# EAGLE library part MC14504B (library pixhawk2)
Hex level shifter
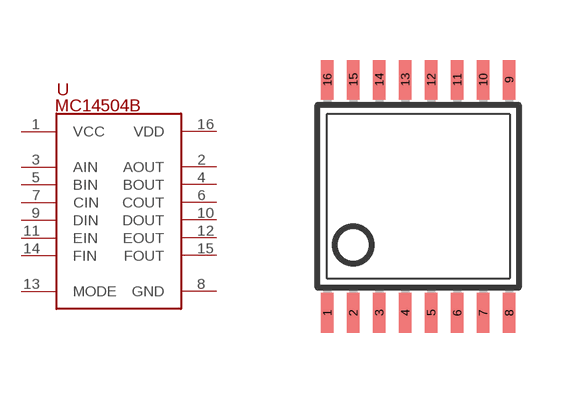
[diagram p80: symbol with the pads of TSSOP-16; footprint TSSOP-16]

Designator prefix -

## MC14504BTSSOP16  [TSSOP-16]
1  VCC  pwr
2  AOUT
3  AIN
4  BOUT
5  BIN
6  COUT
7  CIN
8  GND
9  DIN
10  DOUT
11  EIN
12  EOUT
13  MODE
14  FIN
15  FOUT
16  VDD

## Footprint TSSOP-16 (pad centres in mm)
Thin Shrink Small Outline Plastic 16 MAX3223-MAX3243.pdf
smd 0.305 x 0.991: 1 -2.275,-2.918; 2 -1.625,-2.918; 3 -0.975,-2.918; 4 -0.325,-2.918; 5 0.325,-2.918; 6 0.975,-2.918; 7 1.625,-2.918; 8 2.275,-2.918; 9 2.275,2.918; 10 1.625,2.918; 11 0.975,2.918; 12 0.325,2.918; 13 -0.325,2.918; 14 -0.975,2.918; 15 -1.625,2.918; 16 -2.275,2.918